# Altium footprint library 6_to_14_Pin.PcbLib: 54 footprints (part 3 of 4)
Each footprint in its own frame and in the unit in brackets; x right, y up, seen from the top. Pads: shape width x height; smd on the part's side, far side on the other; paste and mask are expansions set on the pad; w line width, h text height; cw(c..) or ccw(c..) is an arc to the next point about the centre after c.
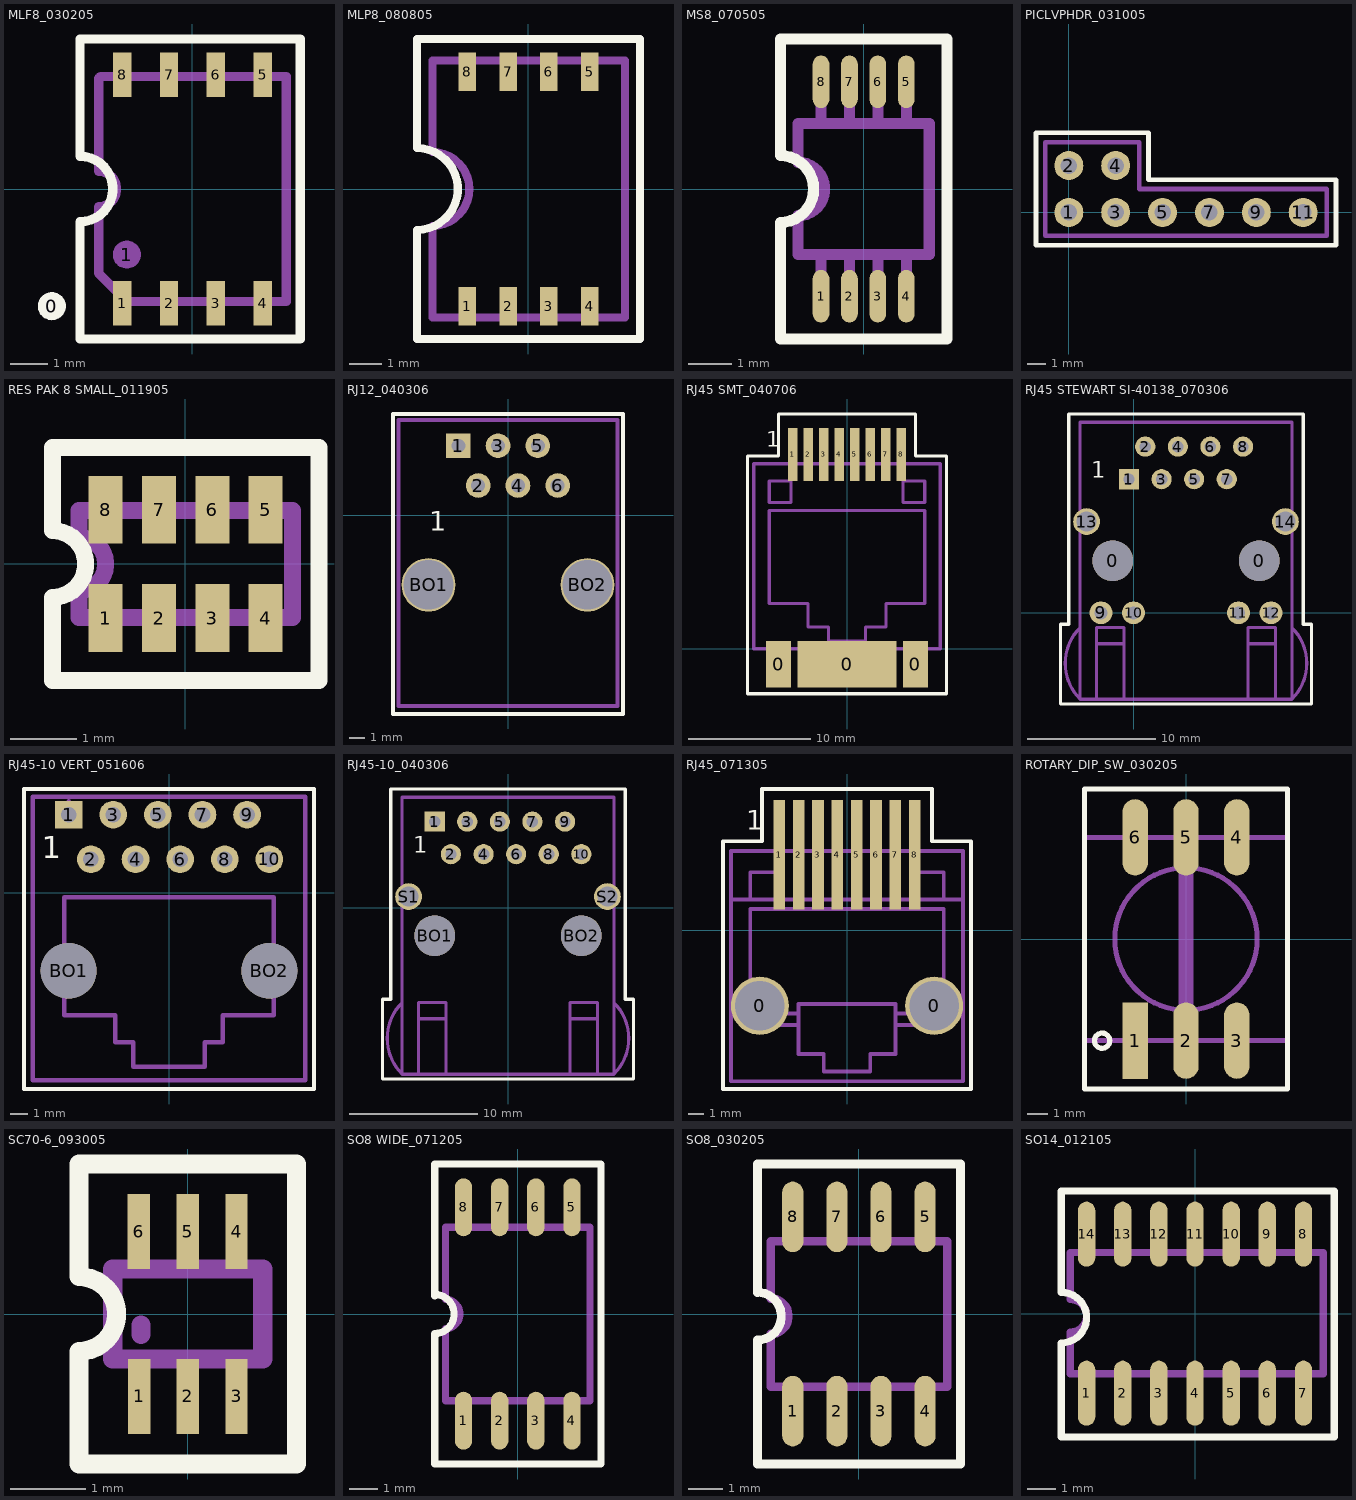
[diagram p2: the footprints below, top view; thin cyan lines are the x and y axes]

## MLF8_030205 [mm] "SMT"
height 1.016
pads (10):
  round 0.762 on Top Overlay paste+0 mask+0.051: 0(-3.81,-3.175)
  rect 0.5x1.2 smd paste+0 mask+0.051: 1(-1.905,-3.099) 2(-0.635,-3.099) 3(0.635,-3.099) 4(1.905,-3.099) 5(1.905,3.099) 6(0.635,3.099) 7(-0.635,3.099) 8(-1.905,3.099)
  round 0.762 on Mech1 paste+0 mask+0.051: 1(-1.778,-1.778)
Top Overlay:
  lines w0.254: -3.048,-4.064 -3.048,-0.889 ccw(c-3.048,0) -3.048,0.889 -3.048,4.064 2.921,4.064 2.921,-4.064 -2.54,-4.064 -3.048,-4.064
Assembly Outline:
  lines w0.254: -2.54,-2.286 -1.778,-3.048 2.54,-3.048 2.54,3.048 -2.489,3.048 -2.54,2.997 -2.54,0.483 cw(c-2.54,0) -2.54,-0.483 -2.54,-2.286
Assembly Designator:
  text ".Designator" at 0.432,-1.168 h1.02
Assembly Comment:
  text ".Comment" at 2.108,-2.54 h1.02

## MLP8_080805 [mm] "SMT"
height 1.016
pads (8):
  rect 0.55x1.2 smd mask+0.051: 1(-1.905,-3.658) 2(-0.635,-3.658) 3(0.635,-3.658) 4(1.905,-3.658) 5(1.905,3.658) 6(0.635,3.658) 7(-0.635,3.658) 8(-1.905,3.658)
Top Overlay:
  lines w0.254: -3.475,-4.675 0,-4.675 3.475,-4.675 3.475,0 3.475,4.675 0,4.675 -3.475,4.675 -3.475,1.275 cw(c-3.475,0) -3.475,-1.275 -3.475,-4.675
Assembly Outline:
  lines w0.254: 0.006,-4 -2.994,-4 ; -2.994,-4 -2.994,-1.15 ccw(c-2.994,0) -2.994,1.15 -2.994,4 3.006,4 3.006,-4 -2.994,-4
Assembly Designator:
  text ".Designator" at -0.95,-0.475 h1.02
Assembly Comment:
  text ".Comment" at -2.6,-2.5 h1.02

## MS8_070505 [mm] "SMT"
height 0.889
pads (8):
  oval 0.38x1.2 smd mask+0.038: 1(-0.975,-2.45) 2(-0.325,-2.45) 3(0.325,-2.45) 4(0.975,-2.45) 5(0.975,2.45) 6(0.325,2.45) 7(-0.325,2.45) 8(-0.975,2.45)
Top Overlay:
  lines w0.254: -1.905,-3.429 1.905,-3.429 1.905,0 1.905,3.429 -1.905,3.429 -1.905,0.762 cw(c-1.905,0) -1.143,0 cw(c-1.905,0) -1.905,-0.762 -1.905,-3.429
Assembly Outline:
  lines w0.254: -0.975,-2.45 -0.975,-1.5 ; -0.975,1.5 -0.975,2.45 ; -0.325,-2.45 -0.325,-1.5 ; -0.325,1.5 -0.325,2.45 ; 0.325,-2.45 0.325,-1.5 ; 0.325,1.5 0.325,2.45 ; 0.975,-2.45 0.975,-1.5 ; 0.975,1.5 0.975,2.45 ; -1.5,-1.5 1.5,-1.5 1.5,1.5 -1.5,1.5 -1.5,0.611 cw(c-1.5,0) -1.5,-0.611 -1.5,-1.5
Assembly Designator:
  text ".Designator" at -0.508,-0.381 h1.02
Assembly Comment:
  text ".Comment" at -1.778,-4.826 h1.02

## PICLVPHDR_031005 [mil] "FEATURE SMT PCB"
pads (8):
  round 62 hole 35: 1(0,0) 2(0,100) 3(100,0) 4(100,100) 5(200,0) 7(300,0) 9(400,0) 11(500,0)
Top Overlay:
  lines w10: -70,-70 -70,170 140,170 170,170 170,70 570,70 570,-70 -70,-70
Assembly Outline:
  lines w8: -12,-12 13,-12 13,13 -12,13 -12,-12 ; -12,88 13,88 13,113 -12,113 -12,88 ; 88,-12 113,-12 113,13 88,13 88,-12 ; 88,88 113,88 113,113 88,113 88,88 ; 188,-12 213,-12 213,13 188,13 188,-12 ; 288,-12 313,-12 313,13 288,13 288,-12 ; 388,-12 413,-12 413,13 388,13 388,-12 ; 488,-12 513,-12 513,13 488,13 488,-12
  lines w10: -50,-50 -50,150 0,150 150,150 150,50 550,50 550,-50 -50,-50
Assembly Designator:
  text ".Designator" at -4,33 h40
Assembly Comment:
  text ".Comment" at 192,87 h40

## RES PAK 8 SMALL_011905 [mil] "SMT"
height 16
pads (8):
  rect 20x40 smd mask+1.5: 1(-47,-32) 2(-15.5,-32) 3(15.99,-32) 4(47.49,-32) 5(47.49,32) 6(15.99,32) 7(-15.5,32) 8(-47,32)
Top Overlay:
  lines w10: -78.5,-69 78.98,-69 78.98,68.8 12.05,68.8 -78.5,68.8 -78.5,19.59 cw(c-78.5,-0.1) -78.5,-19.78 -78.5,-69
Assembly Outline:
  lines w10: -62.75,-31.59 63.24,-31.59 63.24,31.4 -62.75,31.4 -62.75,15.65 cw(c-62.75,-0.1) -62.75,-15.85 -62.75,-31.59
Assembly Designator:
  text ".Designator" at -80,-32 h40
Assembly Comment:
  text ".Comment" at -61,43 h40

## RJ12_040306 [mil] "TH"
height 600
pads (8):
  rect 62x62 hole 35: 1(-125,175)
  round 62 hole 35: 2(-75,75) 3(-25,175) 4(25,75) 5(75,175) 6(125,75)
  round 135 hole 125: BO1(-200,-175) BO2(200,-175)
Top Overlay:
  lines w10: 230,255 290,255 ; 290,255 290,-500 235,-500 -290,-500 -290,255 35,255 290,255
  text "1" at -197.84,-39.13 h50
Assembly Outline:
  lines w10: -275,-480 -275,240 275,240 275,-175 275,-480 -275,-480
Assembly Designator:
  text ".Designator" at -65,-195 h40
Assembly Comment:
  text ".Comment" at -155,-345 h40

## RJ45 SMT_040706 [mil] "SMT"
height 510
pads (11):
  rect 80x150 smd: 0(-220,-50) 0(220,-50)
  rect 320x150 smd: 0(0,-50)
  rect 30x170 smd mask+1.5: 1(-175,625) 2(-125,625) 3(-75,625) 4(-25,625) 5(25,625) 6(75,625) 7(125,625) 8(175,625)
Top Overlay:
  lines w10: -320,-145 -320,-20 -320,390 -320,620 -220,620 -220,755 0,755 220,755 220,620 320,620 320,390 320,-20 320,-145 -320,-145
  text "1" at -260,650 h50
Assembly Outline:
  lines w10: -250,0 -250,-80 -190,-80 -190,0 ; -180,595 -180,675 -170,675 -170,595 ; -150,0 -150,-90 0,-90 150,-90 150,0 ; -130,595 -130,675 -120,675 -120,595 ; -80,595 -80,675 -70,675 -70,595 ; -30,595 -30,675 -20,675 -20,595 ; 20,595 20,675 30,675 30,595 ; 70,595 70,675 80,675 80,595 ; 120,595 120,675 130,675 130,595 ; 170,595 170,675 180,675 180,595 ; 190,0 190,-80 250,-80 250,0 300,0 ; 300,470 300,595 ; 300,0 -300,0 -300,595 300,595 ; 300,0 300,595 ; -250,145 -125,145 -125,70 -60,70 -60,25 0,25 60,25 60,70 125,70 125,145 250,145 250,445 0,445 -250,445 -250,145 ; -250,470 -250,540 -180,540 -180,470 -250,470 ; 180,470 180,540 250,540 250,470 180,470
Assembly Designator:
  text ".Designator" at -50,305 h40
Assembly Comment:
  text ".Comment" at -130,240 h40

## RJ45 STEWART SI-40138_070306 [mil] "TH"
height 600
pads (16):
  round 125 hole 125 unplated: 0(-64,160) 0(386,160)
  rect 62x62 hole 35: 1(-14,410)
  round 62 hole 35: 2(36,510) 3(86,410) 4(136,510) 5(186,410) 6(236,510) 7(286,410) 8(336,510)
  round 70 hole 40: 9(-100,0) 10(0,0) 11(322,0) 12(422,0)
  round 82 hole 62 unplated: 13(-144,280) 14(466,280)
Top Overlay:
  lines w10: -224,-280 161,-280 546,-280 546,-35 521,-35 521,345 521,610 -199,610 -199,345 -199,-35 -224,-35 -224,-280
  text "1" at -129,415 h50
Assembly Outline:
  lines w10: -164,-45 ccw(c-54,-155) -164,-265 ; -114,-265 -114,-45 -29,-45 ; -114,-95 -29,-95 -29,-45 ; -29,-265 -29,-45 ; 351,-265 351,-45 ; 436,-95 351,-95 351,-45 ; 486,-155 486,-265 ; -164,-265 -164,-91 -164,344 -164,585 486,585 486,344 486,-91 486,-265 ; -164,-265 486,-265 ; 351,-45 436,-45 436,-265 486,-265 ; 486,-265 ccw(c376,-155) 486,-45 486,-265
Assembly Designator:
  text ".Designator" at 123.5,255 h40
Assembly Comment:
  text ".Comment" at 61,190 h40

## RJ45-10 VERT_051606 [mil] "TH"
height 645
pads (12):
  rect 62x62 hole 35: 1(-225,175)
  round 62 hole 35: 2(-175,75) 3(-125,175) 4(-75,75) 5(-25,175) 6(25,75) 7(75,175) 8(125,75) 9(175,175) 10(225,75)
  round 125 hole 125 unplated: BO1(-225,-175) BO2(225,-175)
Top Overlay:
  lines w10: -325,-440 -325,0 -325,232.5 0,232.5 325,232.5 325,0 325,-440 -325,-440
  text "1" at -285,77.5 h50
Assembly Outline:
  lines w10: -225,-420 0,-420 ; -225,175 -225,205 ; -305,-420 305,-420 305,215 -305,215 -305,-420 ; -235,-275 -235,-10 0,-10 235,-10 235,-275 120,-275 120,-335 80,-335 80,-390 0,-390 -80,-390 -80,-335 -120,-335 -120,-275 -235,-275
Assembly Designator:
  text ".Designator" at -52.5,-87.5 h40
Assembly Comment:
  text ".Comment" at -207.5,-312.5 h40

## RJ45-10_040306 [mil] "TH"
height 600
pads (14):
  rect 62x62 hole 35: 1(-225,265)
  round 62 hole 35: 2(-175,165) 3(-125,265) 4(-75,165) 5(-25,265) 6(25,165) 7(75,265) 8(125,165) 9(175,265) 10(225,165)
  round 125 hole 125 unplated: BO1(-225,-85) BO2(225,-85)
  round 82 hole 62 unplated: S1(-305,35) S2(305,35)
Top Overlay:
  lines w10: -385,-525 0,-525 385,-525 385,-280 360,-280 360,100 360,365 -360,365 -360,100 -360,-280 -385,-280 -385,-525
  text "1" at -290,170 h50
Assembly Outline:
  lines w10: -325,-290 ccw(c-215,-400) -325,-510 ; -275,-510 -275,-290 -190,-290 ; -275,-340 -190,-340 -190,-290 ; -190,-510 -190,-290 ; 190,-510 190,-290 ; 275,-340 190,-340 190,-290 ; 325,-400 325,-510 ; -325,-510 -325,-336 -325,99 -325,340 325,340 325,99 325,-336 325,-510 ; -325,-510 325,-510 ; 190,-290 275,-290 275,-510 325,-510 ; 325,-510 ccw(c215,-400) 325,-290 325,-510
Assembly Designator:
  text ".Designator" at -35,-180 h40
Assembly Comment:
  text ".Comment" at -100,-260 h40

## RJ45_071305 [mil] "SMT"
height 570
pads (10):
  round 150 hole 128 mask+1.5: 0(-225,-195) 0(225,-195)
  rect 30x283 smd mask+1.5: 1(-175,195) 2(-125,195) 3(-75,195) 4(-25,195) 5(25,195) 6(75,195) 7(125,195) 8(175,195)
Top Overlay:
  lines w10: -320,-410 -320,0 -320,230 -220,230 -220,365 0,365 220,365 220,230 320,230 320,0 320,-410 225,-410 0,-410 -225,-410 -320,-410
  text "1" at -260,260 h50
Assembly Outline:
  lines w10: -300,80 300,80 300,205 ; -250,-215 -125,-215 ; -250,80 -250,150 -180,150 -180,80 ; -180,205 -180,295 -170,295 ; -175,295 -170,295 ; -170,205 -170,295 ; -130,205 -130,295 -120,295 ; -125,295 -120,295 ; -120,205 -120,295 ; -80,205 -80,295 -70,295 ; -75,295 -70,295 ; -70,205 -70,295 ; -30,205 -30,295 -20,295 ; -25,295 -20,295 ; -20,205 -20,295 ; 20,205 20,295 30,295 ; 25,295 30,295 ; 30,205 30,295 ; 70,205 70,295 80,295 ; 75,295 80,295 ; 80,205 80,295 ; 120,205 120,295 130,295 ; 125,-215 250,-215 ; 125,295 130,295 ; 130,205 130,295 ; 170,205 170,295 180,295 ; 175,295 180,295 ; 180,80 180,150 250,150 250,80 ; 180,205 180,295 ; -125,-245 -125,-190 0,-190 125,-190 125,-245 ; -125,-245 -125,-320 -60,-320 -60,-365 0,-365 60,-365 60,-320 125,-320 125,-245 ; -125,-245 -250,-245 -250,55 0,55 250,55 250,-245 125,-245 ; 300,205 -300,205 -300,-390 300,-390 300,205
Assembly Designator:
  text ".Designator" at -50,-85 h40
Assembly Comment:
  text ".Comment" at -130,-150 h40

## ROTARY_DIP_SW_030205 [mil] "SMT"
height 370
pads (6):
  rect 50x150 smd: 1(-100,-200)
  oval 50x150 smd: 2(0,-200) 3(100,-200) 4(100,200) 5(0,200) 6(-100,200)
Top Overlay:
  circle w10: c-165,-200 r15
  lines w10: -200,-295 200,-295 200,295 -200,295 -200,-295
Assembly Outline:
  circle w10: c0,0 r140
  region: -110,255 -110,200 -90,200 -90,255
  region: -10,255 -10,200 10,200 10,255
  region: 90,255 90,200 110,200 110,255
  region: 110,-255 110,-200 90,-200 90,-255
  region: -90,-255 -90,-200 -110,-200 -110,-255
  region: 10,-255 10,-200 -10,-200 -10,-255
  lines w10: -200,-200 200,-200 200,200 -200,200 -200,-200
  lines w30: 0,-130 0,130
Assembly Designator:
  text ".Designator" at -43,-77 h40
Assembly Comment:
  text ".Comment" at 186,-182 h40

## SC70-6_093005 [mm] "SMT"
height 1
pads (6):
  rect 0.3x1 smd mask+0.038: 1(-0.65,-1.1) 2(0,-1.1) 3(0.65,-1.1) 4(0.65,1.1) 5(0,1.1) 6(-0.65,1.1)
Top Overlay:
  lines w0.254: -1.45,-2 -1.45,-0.5 ccw(c-1.45,0) -1.45,0.5 -1.45,2 0.375,2 1.45,2 1.45,0 1.45,-2 -0.375,-2 -1.45,-2
Assembly Outline:
  lines w0.254: -1,0 -1,0.6 ; -0.65,-1.1 -0.65,-0.6 ; -0.65,0.6 -0.65,1.1 ; -0.625,-0.275 -0.625,-0.15 ; 0,-1.1 0,-0.6 ; 0,1.1 0,0.6 -1,0.6 ; 0.65,-1.1 0.65,-0.6 ; 0.65,0.6 0.65,1.1 ; -1,-0.6 1,-0.6 ; -1,-0.6 -1,0.6 ; -1,-0.6 1,-0.6 ; -1,0.6 1,0.6 1,-0.6
Assembly Designator:
  text ".Designator" at 1.8,-0.475 h1.02
Assembly Comment:
  text ".Comment" at -1.825,-3.5 h1.02

## SO8 WIDE_071205 [mil] "SMT"
height 80
pads (8):
  oval 24x80 smd: 1(-75,-147.5) 2(-25,-147.5) 3(25,-147.5) 4(75,-147.5) 5(75,147.5) 6(25,147.5) 7(-25,147.5) 8(-75,147.5)
Top Overlay:
  lines w10: -115,25 -115,207.5 115,207.5 115,-207.5 -115,-207.5 -115,-27.04 ccw(c-115,0) -115,27.04
Assembly Outline:
  lines w10: -80,-120 -80,-147.5 -70,-147.5 -70,-120 ; -80,120 -80,147.5 -70,147.5 -70,120 ; -30,-120 -30,-147.5 -20,-147.5 -20,-120 ; -30,120 -30,147.5 -20,147.5 -20,120 ; 20,-120 20,-147.5 30,-147.5 30,-120 ; 20,120 20,147.5 30,147.5 30,120 ; 70,-120 70,-147.5 80,-147.5 80,-120 ; 70,120 70,147.5 80,147.5 80,120 ; -100,-120 100,-120 100,120 -100,120 -100,20 cw(c-100,0) -100,-20 -100,-120
Assembly Designator:
  text ".Designator" at -55,-15.5 h40
Assembly Comment:
  text ".Comment" at -116,-229.5 h40

## SO8_030205 [mil] "SMT"
height 70
pads (8):
  oval 24x80 smd: 1(-75,-110) 2(-25,-110) 3(25,-110) 4(75,-110) 5(75,110) 6(25,110) 7(-25,110) 8(-75,110)
Top Overlay:
  lines w10: -115,-170 -115,-29.54 ccw(c-115,-2.5) -115,24.54 -115,170 115,170 115,-170 -115,-170
Assembly Outline:
  lines w10: -80,-82.5 -80,-110 -70,-110 -70,-82.5 ; -80,82.5 -80,110 -70,110 -70,82.5 ; -30,-82.5 -30,-110 -20,-110 -20,-82.5 ; -30,82.5 -30,110 -20,110 -20,82.5 ; 20,-82.5 20,-110 30,-110 30,-82.5 ; 20,82.5 20,110 30,110 30,82.5 ; 70,-82.5 70,-110 80,-110 80,-82.5 ; 70,82.5 70,110 80,110 80,82.5 ; -100,-82.5 -100,-22.5 ccw(c-100,-2.5) -100,17.5 -100,82.5 100,82.5 100,-82.5 -100,-82.5
Assembly Designator:
  text ".Designator" at -55,22 h40
Assembly Comment:
  text ".Comment" at -116,-192 h40

## SO14_012105 [mil] "SMT"
height 75
pads (14):
  oval 24x90 smd: 1(-150,-110) 2(-100,-110) 3(-50,-110) 4(0,-110) 5(50,-110) 6(100,-110) 7(150,-110) 8(150,110) 9(100,110) 10(50,110) 11(0,110) 12(-50,110) 13(-100,110) 14(-150,110)
Top Overlay:
  lines w10: -185,-170.46 -185,-40.46 ccw(c-185,-5.46) -185,29.54 -185,169.54 192.5,169.54 192.5,-170.46 -185,-170.46
Assembly Outline:
  lines w10: -155,84.54 -155,112.04 -145,112.04 -145,84.54 ; -145,-82.96 -145,-110.46 -155,-110.46 -155,-82.96 ; -105,-82.96 -105,-110.46 -95,-110.46 -95,-82.96 ; -105,84.54 -105,112.04 -95,112.04 -95,84.54 ; -55,-82.96 -55,-110.46 -45,-110.46 -45,-82.96 ; -55,84.54 -55,112.04 -45,112.04 -45,84.54 ; -5,-82.96 -5,-110.46 5,-110.46 5,-82.96 ; -5,84.54 -5,112.04 5,112.04 5,84.54 ; 45,-82.96 45,-110.46 55,-110.46 55,-82.96 ; 45,84.54 45,112.04 55,112.04 55,84.54 ; 95,-82.96 95,-110.46 105,-110.46 105,-82.96 ; 95,84.54 95,112.04 105,112.04 105,84.54 ; 145,-82.96 145,-110.46 155,-110.46 155,-82.96 ; 145,84.54 145,112.04 155,112.04 155,84.54 ; -155,-82.96 -172.5,-82.96 -172.5,-25.46 ccw(c-172.5,-2.96) -172.5,19.54 -172.5,84.54 177.5,84.54 177.5,-82.96 -155,-82.96
Assembly Designator:
  text ".Designator" at -72,-56 h40
Assembly Comment:
  text ".Comment" at -143,17 h40